# Altium schematic symbol library FUSE 20A 63V SLOW.Schlib: 1 symbol
Pins are listed as number, name and electrical type; pins without a type are passive.

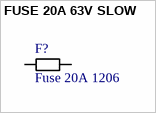
[diagram p0: symbol FUSE 20A 63V SLOW]

## FUSE 20A 63V SLOW
designator F?, comment Fuse 20A 1206
FUSE 20A 32V AC 63V DC 1206; Response Time: Slow Blow; Voltage Rating - DC: 63V; Operating Temperature: -55°C ~ 90°C
footprint 1206
pins: 1, 2